# Altium schematic symbol library SCH - SENSOR - TEMPARATUR - NTC 0603.Schlib: 1 symbol
Pins are listed as number, name and electrical type; pins without a type are passive.

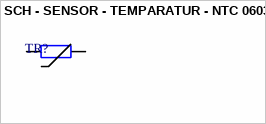
[diagram p0: symbol SCH - SENSOR - TEMPARATUR - NTC 0603]

## SCH - SENSOR - TEMPARATUR - NTC 0603
designator TR?
pins: 1, 2